# Altium footprint library PQ2020_THT_V_10PIN_(6369).PcbLib: 1 footprints
Each footprint in its own frame and in the unit in brackets; x right, y up, seen from the top. Pads: shape width x height; smd on the part's side, far side on the other; paste and mask are expansions set on the pad; w line width, h text height; cw(c..) or ccw(c..) is an arc to the next point about the centre after c.
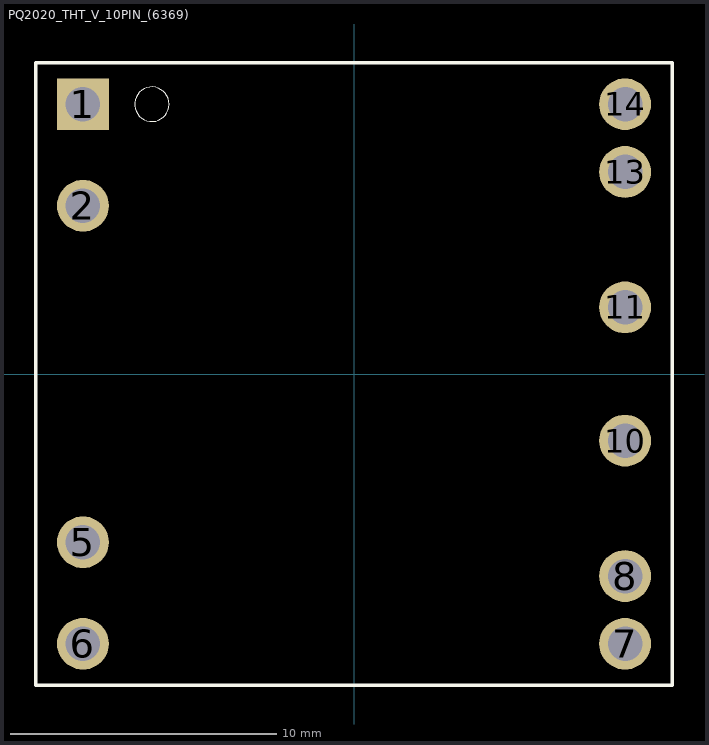
[diagram p0: the footprint, top view; thin cyan lines are the x and y axes]

## PQ2020_THT_V_10PIN_(6369) [mil]
pads (10):
  rect 76.5x76.5 hole 51: 1(-400.5,398.5)
  round 76.5 hole 51: 2(-400.5,248.5) 5(-400.5,-248.5) 6(-400.5,-398.5) 7(400.5,-398.5) 8(400.5,-298.5) 10(400.5,-98.5) 11(400.5,98.5) 13(400.5,298.5) 14(400.5,398.5)
Top Overlay:
  circle w0: c-298.5,398.5 r25.5
  lines w5: -470,-460 470,-460 470,460 -470,460 -470,-460
Mechanical 13:
  text "1" at -520,373 h50
  text "6" at -520,-424 h50
  text "7" at 520,-424 h50
  text "14" at 520,373 h50